# Altium footprint library APA2107.PcbLib: 1 footprints
Each footprint in its own frame and in the unit in brackets; x right, y up, seen from the top. Pads: shape width x height; smd on the part's side, far side on the other; paste and mask are expansions set on the pad; w line width, h text height; cw(c..) or ccw(c..) is an arc to the next point about the centre after c.
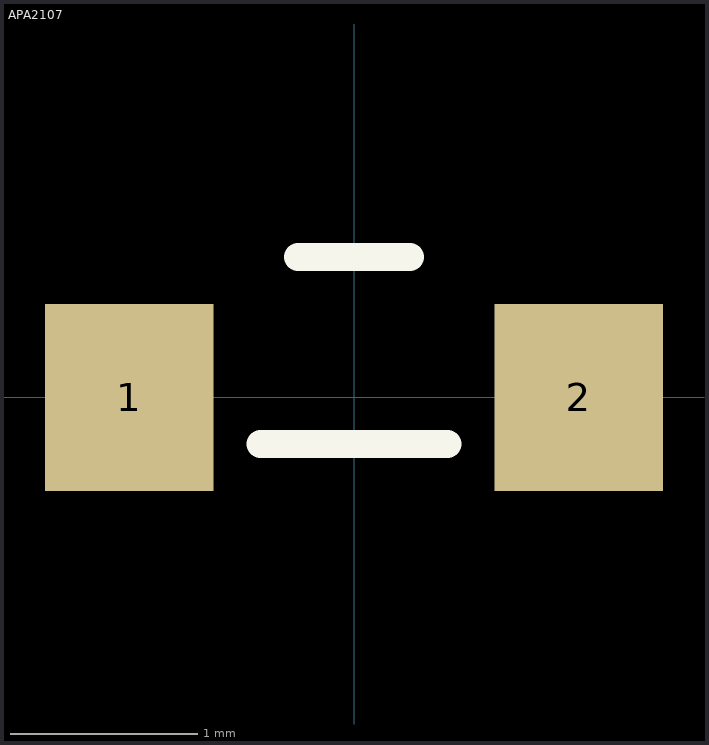
[diagram p0: the footprint, top view; thin cyan lines are the x and y axes]

## APA2107 [mm] "LED, SMD Right-Angle"
pads (2):
  rect 0.9x1 smd: 1(-1.2,0) 2(1.2,0)
Top Overlay:
  lines w0.15: -0.5,-0.25 0.5,-0.25 ; -0.3,0.75 0.3,0.75
3D body "APA2107.sldprt": height 0.6, standoff 0, extent -1.05,-0.251 1.05,0.75